# EAGLE library part LTC3525 (library TSlib)
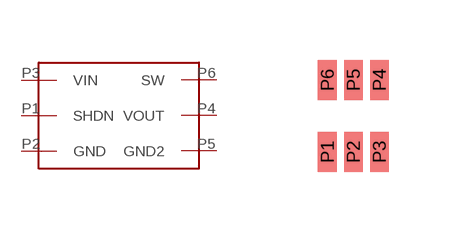
[diagram p1: symbol with the pads of 6-LEAD-SC70; footprint 6-LEAD-SC70]

Designator prefix -

## LTC3525  [6-LEAD-SC70]
P1  SHDN
P2  GND
P3  VIN
P4  VOUT
P5  GND2
P6  SW

## Footprint 6-LEAD-SC70 (pad centres in mm)
smd 0.47 x 1: P1 -0.65,0; P2 0,0; P3 0.65,0; P4 0.65,1.8; P5 0,1.8; P6 -0.65,1.8